# EAGLE library part SN74LVC2G17DBVR (library DAWA-MAIN-7.0)
DUAL SCHMITT-TRIGGER BUFFER
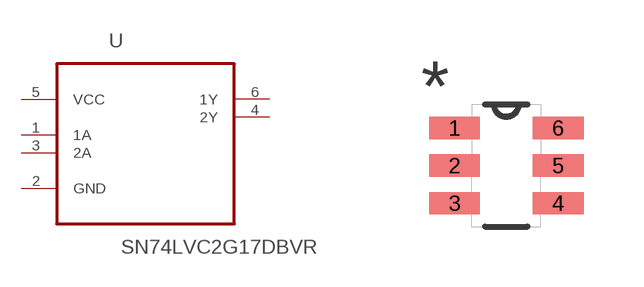
[diagram p14: symbol with the pads of SOT95P280X145-6N; footprint SOT95P280X145-6N]

Designator prefix U

## SN74LVC2G17DBVR (MPN: SN74LVC2G17DBVR; URL_ALIEXPRESS: https://fr.aliexpress.com/item/32955292314.html)  [SOT95P280X145-6N]
1  1A  in
2  GND  pas
3  2A  in
4  2Y  out
5  VCC  pwr
6  1Y  out

## Footprint SOT95P280X145-6N (pad centres in mm)
smd 1.27 x 0.559: 1 -1.295,0.94; 2 -1.295,0; 3 -1.295,-0.94; 4 1.295,-0.94; 5 1.295,0; 6 1.295,0.94